# Altium footprint library beaglebone.PcbLib: 1 footprints
Each footprint in its own frame and in the unit in brackets; x right, y up, seen from the top. Pads: shape width x height; smd on the part's side, far side on the other; paste and mask are expansions set on the pad; w line width, h text height; cw(c..) or ccw(c..) is an arc to the next point about the centre after c.
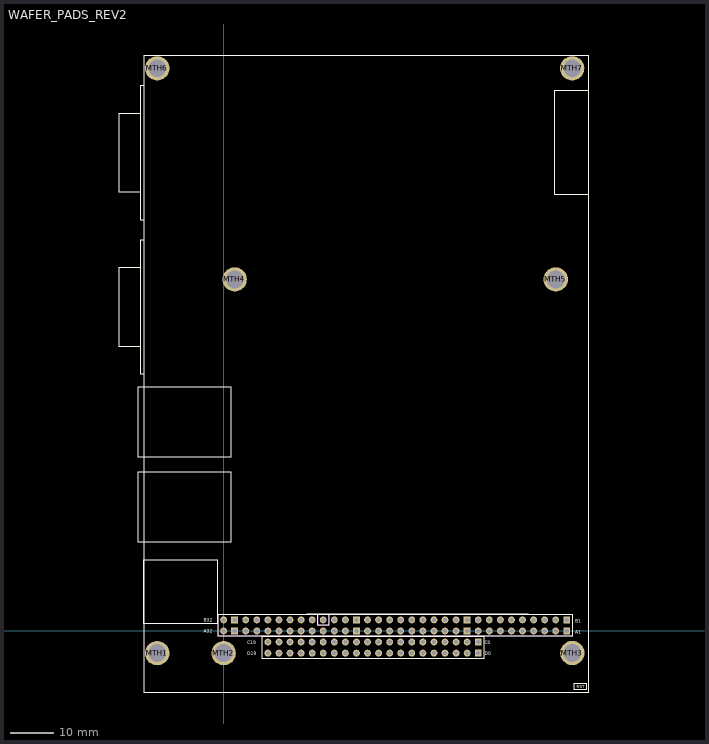
[diagram p0: the footprint, top view; thin cyan lines are the x and y axes]

## WAFER_PADS_REV2 [mil]
pads (111):
  rect 62x62 hole 38 mask+1.5: A1(3100,0) A10(2200,0) A20(1200,0) A31(100,0) B1(3100,100) B10(2200,100) B20(1200,100) B31(100,100) C0(2300,-100) D0(2300,-200)
  round 62 hole 38 mask+1.5: A2(3000,0) A3(2900,0) A4(2800,0) A5(2700,0) A6(2600,0) A7(2500,0) A8(2400,0) A9(2300,0) A11(2100,0) A12(2000,0) A13(1900,0) A14(1800,0) A15(1700,0) A16(1600,0) A17(1500,0) A18(1400,0) A19(1300,0) A21(1100,0) A22(1000,0) A23(900,0) A24(800,0) A25(700,0) A26(600,0) A27(500,0) A28(400,0) A29(300,0) A30(200,0) A32(0,0) B2(3000,100) B3(2900,100) B4(2800,100) B5(2700,100) B6(2600,100) B7(2500,100) B8(2400,100) B9(2300,100) B11(2100,100) B12(2000,100) B13(1900,100) B14(1800,100) B15(1700,100) B16(1600,100) B17(1500,100) B18(1400,100) B19(1300,100) B21(1100,100) B22(1000,100) B23(900,100) B24(800,100) B25(700,100) B26(600,100) B27(500,100) B28(400,100) B29(300,100) B30(200,100) B32(0,100) C1(2200,-100) C2(2100,-100) C3(2000,-100) C4(1900,-100) C5(1800,-100) C6(1700,-100) C7(1600,-100) C8(1500,-100) C9(1400,-100) C10(1300,-100) C11(1200,-100) C12(1100,-100) C13(1000,-100) C14(900,-100) C15(800,-100) C16(700,-100) C17(600,-100) C18(500,-100) C19(400,-100) D1(2200,-200) D2(2100,-200) D3(2000,-200) D4(1900,-200) D5(1800,-200) D6(1700,-200) D7(1600,-200) D8(1500,-200) D9(1400,-200) D10(1300,-200) D11(1200,-200) D12(1100,-200) D13(1000,-200) D14(900,-200) D15(800,-200) D16(700,-200) D17(600,-200) D18(500,-200) D19(400,-200)
  round 220 hole 160 mask+5: MTH1(-599.61,-200) MTH2(0,-200) MTH3(3150,-199.21) MTH4(100,3175) MTH5(3000,3175) MTH6(-599.61,5081.89) MTH7(3148.03,5081.89)
L26-Silk Screen Top (Multiple PADS layers...):
  lines w8: -749,2568 -941,2568 -941,3284 -749,3284 ; -749,3962 -941,3962 -941,4678 -749,4678 ; -722,3535 -749,3535 -749,2318 -721,2318 ; -722,4929 -749,4929 -749,3712 -721,3712 ; 750,150 2750,150 ; 850,150 850,50 950,50 950,150 ; -771,803 65,803 65,1437 -771,1437 -771,803 ; -770,1571 66,1571 66,2205 -770,2205 -770,1571 ; -721,-553 3296.65,-553 3296.65,5195 -721,5195 -721,-553 ; -721,64 -58,64 -58,642 -721,642 -721,64 ; -50,-50 3150,-50 3150,150 -50,150 -50,-50 ; 350,-250 2350,-250 2350,-50 350,-50 350,-250
  lines w10: 3295,3943.75 2987.5,3943.75 2987.5,4879 3295,4879 ; 3166,-533 3276,-533 3276,-472 3166,-472 3166,-533
  text "A1" at 3178.47,-24.2 h29
  text "B1" at 3178.47,75.82 h29
  text "A32" at -179.17,-17.95 h29
  text "B32" at -179.17,82.07 h29
  text "C0" at 2359.72,-117.93 h29
  text "D0" at 2359.72,-217.93 h29
  text "C19" at 214.58,-117.95 h29
  text "D19" at 214.58,-217.93 h29
  text "RST" at 3190,-518 h25
L15 (Multiple PADS layers...):
  lines w8: 850,150 850,50 950,50 950,150 ; -50,-50 3150,-50 3150,150 -50,150 -50,-50
  text "B1" at 3178.47,75.82 h29
  text "A32" at -179.17,-17.95 h29
  text "B32" at -179.17,82.07 h29
  text "A1" at 3178.47,-24.2 h29
Multi-Layer:
  text "Footprint" at -541.97,89.75 h19